# Altium schematic symbol library DI_TVS_UNI.SchLib: 1 symbol
Pins are listed as number, name and electrical type; pins without a type are passive.

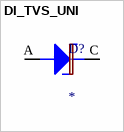
[diagram p0: symbol DI_TVS_UNI]

## DI_TVS_UNI
designator D?
TVS
pins: A, C